# EAGLE library part GY-85 (library Minero)
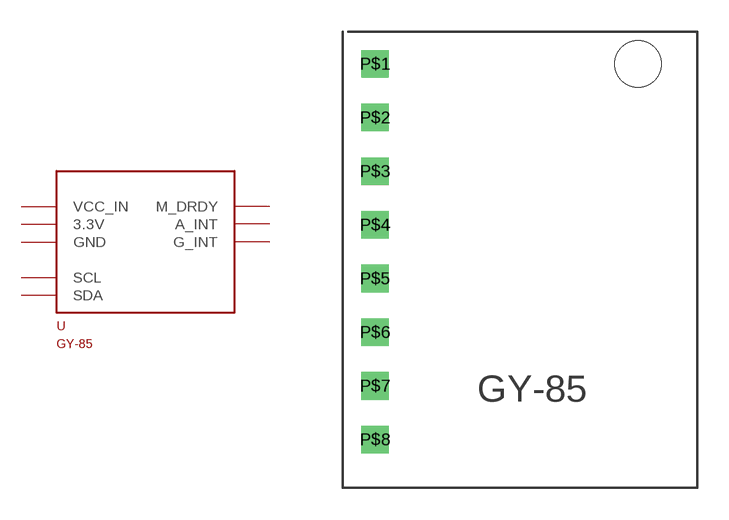
[diagram p2: symbol with the pads of GY-85; footprint GY-85]

Designator prefix -

## GY-85  [GY-85]
P$1  VCC_IN  pwr
P$2  3.3V  pwr
P$3  GND  pwr
P$4  SCL
P$5  SDA
P$6  M_DRDY
P$7  A_INT
P$8  G_INT

## Footprint GY-85 (pad centres in mm)
drill 0.8 square: P$1 -7.366,8.636; P$2 -7.366,6.096; P$3 -7.366,3.556; P$4 -7.366,1.016; P$5 -7.366,-1.524; P$6 -7.366,-4.064; P$7 -7.366,-6.604; P$8 -7.366,-9.144
hole 2.2 at 5.08,8.636